# Altium footprint library WR-SMP.PcbLib: 9 footprints
Each footprint in its own frame and in the unit in brackets; x right, y up, seen from the top. Pads: shape width x height; smd on the part's side, far side on the other; paste and mask are expansions set on the pad; w line width, h text height; cw(c..) or ccw(c..) is an arc to the next point about the centre after c.
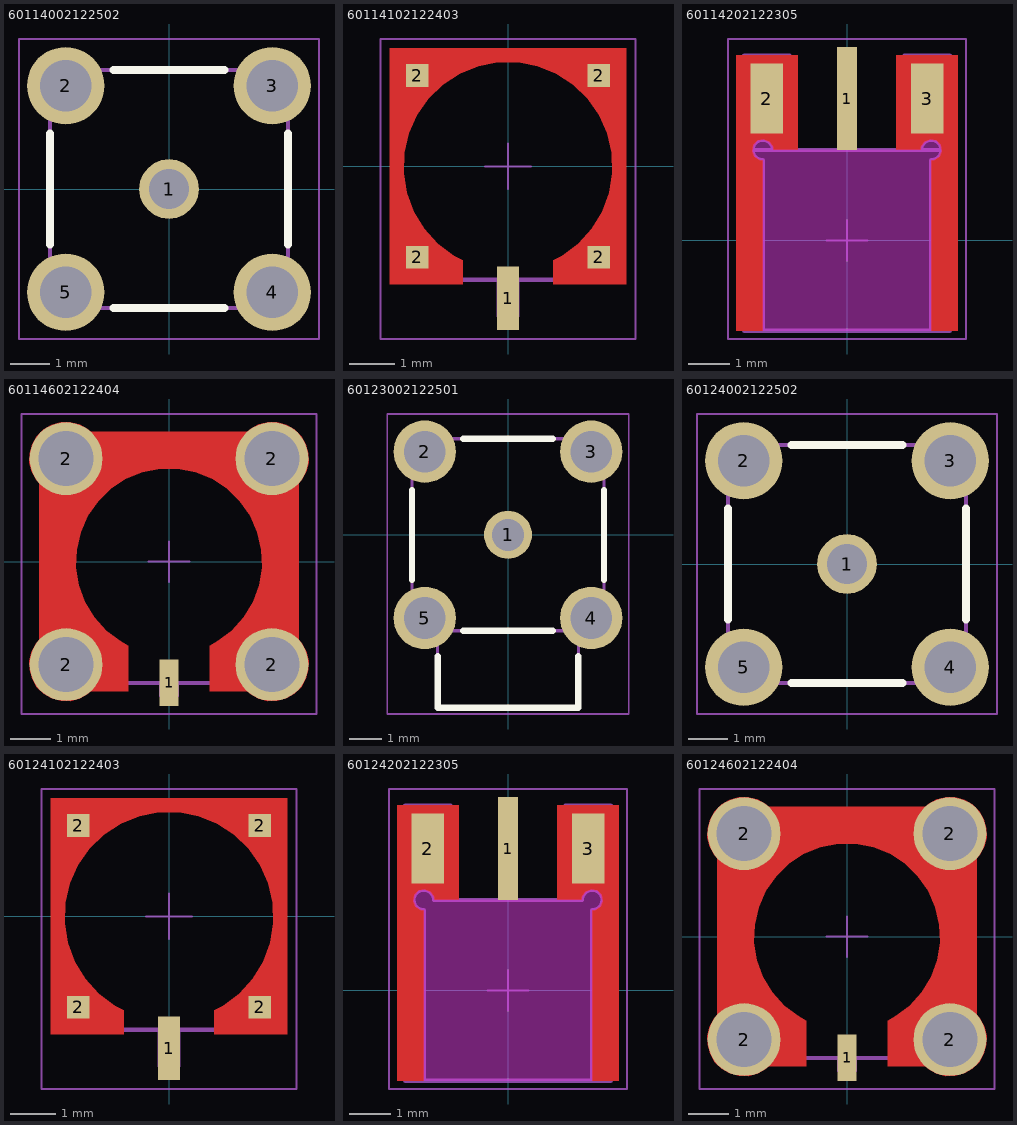
[diagram p0: the footprints below, top view; thin cyan lines are the x and y axes]

## 60114002122502 [mm] "SMP PCB THT Plug"
height 4.1
pads (5):
  round 1.5 hole 1: 1(0,0)
  round 1.95 hole 1.3: 2(-2.6,2.6) 3(2.6,2.6) 4(2.6,-2.6) 5(-2.6,-2.6)
Top Overlay:
  lines w0.2: -3,-1.4 -3,1.4 ; -1.4,-3 1.4,-3 ; -1.4,3 1.4,3 ; 3,-1.4 3,1.4
Top Designator:
  text ".Designator" at -7.498,-0.5 h1.5
Top Component Outline:
  lines w0.1: -3,-3 -3,3 3,3 3,-3 -3,-3
Top 3D Body:
  lines w0.1: -3,-3 3,-3 3,3 -3,3 -3,-3
Top Courtyard:
  lines w0.05: -0.5,0 0.5,0 ; 0,-0.5 0,0.5 ; -3.775,-3.775 -3.775,3.775 3.775,3.775 3.775,-3.775 -3.775,-3.775
3D body "60114002122502.stp": height 4.1, standoff -2.5, extent -3,-3 3,3

## 60114102122403 [mm] "SMP PCB SMT Plug"
height 4.1
pads (5):
  rect 0.48x1.4 smd: 1(0,-2.9)
  rect 0.5x0.5 smd paste-1 mask-1: 2(-2,-2) 2(-2,2) 2(2,-2) 2(2,2)
Top Layer:
  region: -2.6,-2.6 -2.6,2.6 2.6,2.6 2.6,-2.6 1,-2.6 1,-2.071 1.194,-1.966 1.548,-1.701 1.844,-1.374 2.073,-0.996 2.225,-0.582 2.295,-0.146 2.281,0.295 2.182,0.726 2.004,1.129 1.751,1.491 1.434,1.799 1.063,2.039 0.654,2.205 0.221,2.289 -0.221,2.289 -0.654,2.205 -1.063,2.039 -1.434,1.799 -1.751,1.492 -2.004,1.129 -2.182,0.726 -2.281,0.295 -2.295,-0.146 -2.225,-0.582 -2.073,-0.996 -1.844,-1.374 -1.548,-1.701 -1.194,-1.966 -1,-2.071 -1,-2.6
Top Designator:
  text ".Designator" at -7.498,-0.5 h1.5
Top Component Outline:
  lines w0.1: -0.2,-2.5 -0.2,-3.3 0.2,-3.3 0.2,-2.5 ; -2.5,-2.5 2.5,-2.5 2.5,2.5 -2.5,2.5 -2.5,-2.5
Top 3D Body:
  lines w0.1: -0.2,-2.5 -0.2,-3.3 0.2,-3.3 0.2,-2.5 ; -2.5,-2.5 -2.5,2.5 2.5,2.5 2.5,-2.5 -2.5,-2.5
Top Courtyard:
  lines w0.05: -0.5,0 0.5,0 ; 0,-0.5 0,0.5 ; -2.805,-3.8 -2.805,2.805 2.805,2.805 2.805,-3.8 -2.805,-3.8
3D body "60114102122403.stp": height 4.1, standoff 0, extent -2.5,-3.3 2.5,2.5

## 60114202122305 [mm] "SMP SMT END LAUNCH PLUG"
height 4
pads (3):
  rect 0.48x2.5 smd: 1(0,3.45)
  rect 0.79x1.7 smd: 2(-1.95,3.45) 3(1.95,3.45)
Top Layer:
  region: 2.7,-2.2 2.05,-2.2 2.05,1.95 2.123,1.961 2.243,2.041 2.299,2.175 2.27,2.318 2.168,2.42 2.025,2.449 1.891,2.393 1.811,2.273 1.8,2.2 1.2,2.2 1.2,4.5 2.7,4.5
  region: -2.7,-2.2 -2.05,-2.2 -2.05,1.95 -2.123,1.961 -2.243,2.041 -2.299,2.175 -2.27,2.318 -2.168,2.42 -2.025,2.449 -1.891,2.393 -1.811,2.273 -1.8,2.2 -1.2,2.2 -1.2,4.5 -2.7,4.5
Keep-Out Layer:
  board cut-out: -2.05,-2.2 2.05,-2.2 2.05,1.95 2.126,1.95 2.252,2.034 2.31,2.174 2.28,2.323 2.173,2.43 2.024,2.46 1.884,2.402 1.8,2.276 1.8,2.2 -1.8,2.2 -1.8,2.276 -1.884,2.402 -2.024,2.46 -2.173,2.43 -2.28,2.323 -2.31,2.174 -2.252,2.034 -2.126,1.95 -2.05,1.95
Notes:
  lines w0.1: -2.05,-2.2 2.05,-2.2 2.05,1.95 ccw(c2.05,2.2) 1.8,2.2 -1.8,2.2 ccw(c-2.05,2.2) -2.05,1.95 -2.05,-2.2
  text "Board Cutout Area" at -1.9,-0.1 h0.3
Top Designator:
  text ".Designator" at -7.498,-0.5 h1.5
Top Component Outline:
  lines w0.1: -2.5,2.2 2.5,2.2 ; -1.4,2.2 -1.4,4.5 -2.5,4.5 -2.5,-2.2 2.5,-2.2 2.5,4.5 1.4,4.5 1.4,2.2 ; -0.19,2.2 -0.19,4.5 0.19,4.5 0.19,2.2
Top 3D Body:
  lines w0.1: -2.5,2.2 2.5,2.2 ; -1.4,2.2 -1.4,4.5 -2.5,4.5 -2.5,-2.2 2.5,-2.2 2.5,4.5 1.4,4.5 1.4,2.2 ; -0.19,2.2 -0.19,4.5 0.19,4.5 0.19,2.2
Top Courtyard:
  lines w0.05: -0.5,0 0.5,0 ; 0,-0.5 0,0.5 ; -2.9,-2.4 2.9,-2.4 2.9,4.9 -2.9,4.9 -2.9,-2.4
3D body "60114202122305.stp": height 2.2, standoff -1.8, extent -2.5,-2.2 2.5,4.5

## 60114602122404 [mm] "SMP SMT PLUG"
height 4.1
pads (5):
  rect 0.48x1.15 smd: 1(0,-2.985)
  round 1.8 hole 1.36: 2(-2.54,-2.54) 2(-2.54,2.54) 2(2.54,-2.54) 2(2.54,2.54)
Top Layer:
  region: -3.2,-1.928 -3.278,-2.013 -3.388,-2.217 -3.442,-2.441 -3.438,-2.673 -3.375,-2.895 -3.258,-3.095 -3.095,-3.258 -2.895,-3.375 -2.672,-3.438 -2.441,-3.442 -2.216,-3.388 -2.013,-3.278 -1.928,-3.2 -1,-3.2 -1,-2.071 -1.194,-1.966 -1.548,-1.701 -1.844,-1.374 -2.073,-0.996 -2.225,-0.582 -2.295,-0.146 -2.281,0.295 -2.182,0.726 -2.004,1.129 -1.751,1.491 -1.434,1.799 -1.063,2.039 -0.654,2.205 -0.221,2.289 0.221,2.289 0.654,2.205 1.063,2.039 1.434,1.799 1.751,1.491 2.004,1.129 2.182,0.726 2.281,0.295 2.295,-0.146 2.225,-0.582 2.073,-0.996 1.844,-1.374 1.548,-1.701 1.194,-1.966 1,-2.071 1,-3.2 1.928,-3.2 2.013,-3.278 2.216,-3.388 2.441,-3.442 2.672,-3.438 2.895,-3.375 3.095,-3.258 3.258,-3.095 3.375,-2.895 3.438,-2.673 3.442,-2.441 3.388,-2.217 3.278,-2.013 3.2,-1.928 3.2,1.928 3.278,2.013 3.388,2.217 3.442,2.441 3.438,2.673 3.375,2.895 3.258,3.095 3.095,3.258 2.895,3.375 2.672,3.438 2.441,3.442 2.216,3.388 2.013,3.278 1.928,3.2 -1.928,3.2 -2.013,3.278 -2.216,3.388 -2.441,3.442 -2.672,3.438 -2.895,3.375 -3.095,3.258 -3.258,3.095 -3.375,2.895 -3.438,2.673 -3.442,2.441 -3.388,2.217 -3.278,2.013 -3.2,1.928
Top Designator:
  text ".Designator" at -7.498,-0.5 h1.5
Top Component Outline:
  lines w0.1: -0.2,-3 -0.2,-3.3 0.2,-3.3 0.2,-3 ; -3,-3 -3,3 3,3 3,-3 -3,-3
Top 3D Body:
  lines w0.1: -0.2,-3 -0.2,-3.3 0.2,-3.3 0.2,-3 ; -3,-3 3,-3 3,3 -3,3 -3,-3
Top Courtyard:
  lines w0.05: -0.5,0 0.5,0 ; 0,-0.5 0,0.5 ; -3.639,-3.76 3.639,-3.76 3.639,3.639 -3.639,3.639 -3.639,-3.76
3D body "60114602122404.stp": height 4.1, standoff -2.5, extent -3,-3.3 3,3

## 60123002122501 [mm] "SMP R/A PCB MOUNT PLUG"
height 6
pads (5):
  round 1.5 hole 1: 1(0,0)
  round 1.95 hole 1.3: 2(-2.6,2.6) 3(2.6,2.6) 4(2.6,-2.6) 5(-2.6,-2.6)
Top Overlay:
  lines w0.2: -3,-1.4 -3,1.4 ; -2.2,-3.8 -2.2,-5.4 2.2,-5.4 2.2,-3.8 ; -1.4,-3 1.4,-3 ; -1.4,3 1.4,3 ; 3,-1.4 3,1.4
Top Designator:
  text ".Designator" at -7.498,-0.5 h1.5
Top Component Outline:
  lines w0.1: -2.2,-3 -2.2,-5.4 2.2,-5.4 2.2,-3 ; -3,-3 -3,3 3,3 3,-3 -3,-3
Top 3D Body:
  lines w0.1: -2.2,-3 -2.2,-5.4 2.2,-5.4 2.2,-3 ; -3,-3 3,-3 3,3 -3,3 -3,-3
Top Courtyard:
  lines w0.05: -0.5,0 0.5,0 ; 0,-0.5 0,0.5 ; -3.775,-5.6 -3.775,3.775 3.775,3.775 3.775,-5.6 -3.775,-5.6
3D body "60123002122501.stp": height 6, standoff -2.5, extent -3,-5.4 3,3

## 60124002122502 [mm] "SMP PCB MOUNT PLUG"
height 4.1
pads (5):
  round 1.5 hole 1: 1(0,0)
  round 1.95 hole 1.3: 2(-2.6,2.6) 3(2.6,2.6) 4(2.6,-2.6) 5(-2.6,-2.6)
Top Overlay:
  lines w0.2: -3,-1.4 -3,1.4 ; -1.4,-3 1.4,-3 ; -1.4,3 1.4,3 ; 3,-1.4 3,1.4
Top Designator:
  text ".Designator" at -7.498,-0.5 h1.5
Top Component Outline:
  lines w0.1: -3,-3 -3,3 3,3 3,-3 -3,-3
Top 3D Body:
  lines w0.1: -3,-3 3,-3 3,3 -3,3 -3,-3
Top Courtyard:
  lines w0.05: -0.5,0 0.5,0 ; 0,-0.5 0,0.5 ; -3.775,-3.775 -3.775,3.775 3.775,3.775 3.775,-3.775 -3.775,-3.775
3D body "60124002122502.stp": height 4.1, standoff -2.5, extent -3,-3 3,3

## 60124102122403 [mm] "SMP SMT PLUG"
height 4.1
pads (5):
  rect 0.48x1.4 smd: 1(0,-2.9)
  rect 0.5x0.5 smd paste-1 mask-1: 2(-2,-2) 2(-2,2) 2(2,-2) 2(2,2)
Top Layer:
  region: -2.6,-2.6 -2.6,2.6 2.6,2.6 2.6,-2.6 1,-2.6 1,-2.071 1.194,-1.966 1.548,-1.701 1.844,-1.374 2.073,-0.996 2.225,-0.582 2.295,-0.146 2.281,0.295 2.182,0.726 2.004,1.129 1.751,1.491 1.434,1.799 1.063,2.039 0.654,2.205 0.221,2.289 -0.221,2.289 -0.654,2.205 -1.063,2.039 -1.434,1.799 -1.751,1.492 -2.004,1.129 -2.182,0.726 -2.281,0.295 -2.295,-0.146 -2.225,-0.582 -2.073,-0.996 -1.844,-1.374 -1.548,-1.701 -1.194,-1.966 -1,-2.071 -1,-2.6
Top Designator:
  text ".Designator" at -7.498,-0.5 h1.5
Top Component Outline:
  lines w0.1: -0.2,-2.5 -0.2,-3.3 0.2,-3.3 0.2,-2.5 ; -2.5,-2.5 -2.5,2.5 2.5,2.5 2.5,-2.5 -2.5,-2.5
Top 3D Body:
  lines w0.1: -0.2,-2.5 -0.2,-3.3 0.2,-3.3 0.2,-2.5 ; -2.5,-2.5 2.5,-2.5 2.5,2.5 -2.5,2.5 -2.5,-2.5
Top Courtyard:
  lines w0.05: -0.5,0 0.5,0 ; 0,-0.5 0,0.5 ; -2.805,-3.8 2.805,-3.8 2.805,2.805 -2.805,2.805 -2.805,-3.8
3D body "60124102122403.stp": height 4.1, standoff 0, extent -2.5,-3.3 2.5,2.5

## 60124202122305 [mm] "SMP SMT END LAUNCH PLUG"
height 4
pads (3):
  rect 0.48x2.5 smd: 1(0,3.45)
  rect 0.79x1.7 smd: 2(-1.95,3.45) 3(1.95,3.45)
Top Layer:
  region: -2.7,-2.2 -2.05,-2.2 -2.05,1.95 -2.123,1.961 -2.243,2.041 -2.299,2.175 -2.27,2.318 -2.168,2.42 -2.025,2.449 -1.891,2.393 -1.811,2.273 -1.8,2.2 -1.2,2.2 -1.2,4.5 -2.7,4.5
  region: 2.7,-2.2 2.05,-2.2 2.05,1.95 2.123,1.961 2.243,2.041 2.299,2.175 2.27,2.318 2.168,2.42 2.025,2.449 1.891,2.393 1.811,2.273 1.8,2.2 1.2,2.2 1.2,4.5 2.7,4.5
Keep-Out Layer:
  board cut-out: -2.05,-2.2 2.05,-2.2 2.05,1.95 2.126,1.95 2.252,2.034 2.31,2.174 2.28,2.323 2.173,2.43 2.024,2.46 1.884,2.402 1.8,2.276 1.8,2.2 -1.8,2.2 -1.8,2.276 -1.884,2.402 -2.024,2.46 -2.173,2.43 -2.28,2.323 -2.31,2.174 -2.252,2.034 -2.126,1.95 -2.05,1.95
Notes:
  lines w0.1: -2.05,-2.2 -2.05,1.95 cw(c-2.05,2.2) -1.8,2.2 1.8,2.2 cw(c2.05,2.2) 2.05,1.95 2.05,-2.2 -2.05,-2.2
  text "Board Cutout Area" at -1.9,-0.1 h0.3
Top Designator:
  text ".Designator" at -7.498,-0.5 h1.5
Top Component Outline:
  lines w0.1: -2.5,-2.2 -2.5,4.5 -1.4,4.5 -1.4,2.2 -0.19,2.2 -0.19,4.5 0.19,4.5 0.19,2.2 1.4,2.2 1.4,4.5 2.5,4.5 2.5,-2.2 -2.5,-2.2
Top 3D Body:
  lines w0.1: -2.5,-2.2 2.5,-2.2 2.5,4.5 1.4,4.5 1.4,2.2 0.19,2.2 0.19,4.5 -0.19,4.5 -0.19,2.2 -1.4,2.2 -1.4,4.5 -2.5,4.5 -2.5,-2.2
Top Courtyard:
  lines w0.05: -0.5,0 0.5,0 ; 0,-0.5 0,0.5 ; -2.9,-2.4 -2.9,4.9 2.9,4.9 2.9,-2.4 -2.9,-2.4
3D body "60124202122305.stp": height 2.2, standoff -1.8, extent -2.5,-2.2 2.5,4.5

## 60124602122404 [mm] "SMP SMT PLUG"
height 4.1
pads (5):
  rect 0.48x1.15 smd: 1(0,-2.985)
  round 1.8 hole 1.36: 2(-2.54,-2.54) 2(-2.54,2.54) 2(2.54,-2.54) 2(2.54,2.54)
Top Layer:
  region: -3.2,-1.928 -3.278,-2.013 -3.388,-2.217 -3.442,-2.441 -3.438,-2.673 -3.375,-2.895 -3.258,-3.095 -3.095,-3.258 -2.895,-3.375 -2.672,-3.438 -2.441,-3.442 -2.216,-3.388 -2.013,-3.278 -1.928,-3.2 -1,-3.2 -1,-2.071 -1.194,-1.966 -1.548,-1.701 -1.844,-1.374 -2.073,-0.996 -2.225,-0.582 -2.295,-0.146 -2.281,0.295 -2.182,0.726 -2.004,1.129 -1.751,1.491 -1.434,1.799 -1.063,2.039 -0.654,2.205 -0.221,2.289 0.221,2.289 0.654,2.205 1.063,2.039 1.434,1.799 1.751,1.491 2.004,1.129 2.182,0.726 2.281,0.295 2.295,-0.146 2.225,-0.582 2.073,-0.996 1.844,-1.374 1.548,-1.701 1.194,-1.966 1,-2.071 1,-3.2 1.928,-3.2 2.013,-3.278 2.216,-3.388 2.441,-3.442 2.672,-3.438 2.895,-3.375 3.095,-3.258 3.258,-3.095 3.375,-2.895 3.438,-2.673 3.442,-2.441 3.388,-2.217 3.278,-2.013 3.2,-1.928 3.2,1.928 3.278,2.013 3.388,2.217 3.442,2.441 3.438,2.673 3.375,2.895 3.258,3.095 3.095,3.258 2.895,3.375 2.672,3.438 2.441,3.442 2.216,3.388 2.013,3.278 1.928,3.2 -1.928,3.2 -2.013,3.278 -2.216,3.388 -2.441,3.442 -2.672,3.438 -2.895,3.375 -3.095,3.258 -3.258,3.095 -3.375,2.895 -3.438,2.673 -3.442,2.441 -3.388,2.217 -3.278,2.013 -3.2,1.928
Top Designator:
  text ".Designator" at -7.498,-0.5 h1.5
Top Component Outline:
  lines w0.1: -0.2,-3 -0.2,-3.3 0.2,-3.3 0.2,-3 ; -3,-3 -3,3 3,3 3,-3 -3,-3
Top 3D Body:
  lines w0.1: -0.2,-3 -0.2,-3.3 0.2,-3.3 0.2,-3 ; -3,-3 3,-3 3,3 -3,3 -3,-3
Top Courtyard:
  lines w0.05: -0.5,0 0.5,0 ; 0,-0.5 0,0.5 ; -3.639,-3.76 3.639,-3.76 3.639,3.639 -3.639,3.639 -3.639,-3.76
3D body "60124602122404.stp": height 4.1, standoff -2.5, extent -3,-3.3 3,3